# Altium schematic symbol library Analog Devices Amplifiers and Linear Comparators.SchLib: 160 symbols (part 1 of 9)
Pins are listed as number, name and electrical type; pins without a type are passive.

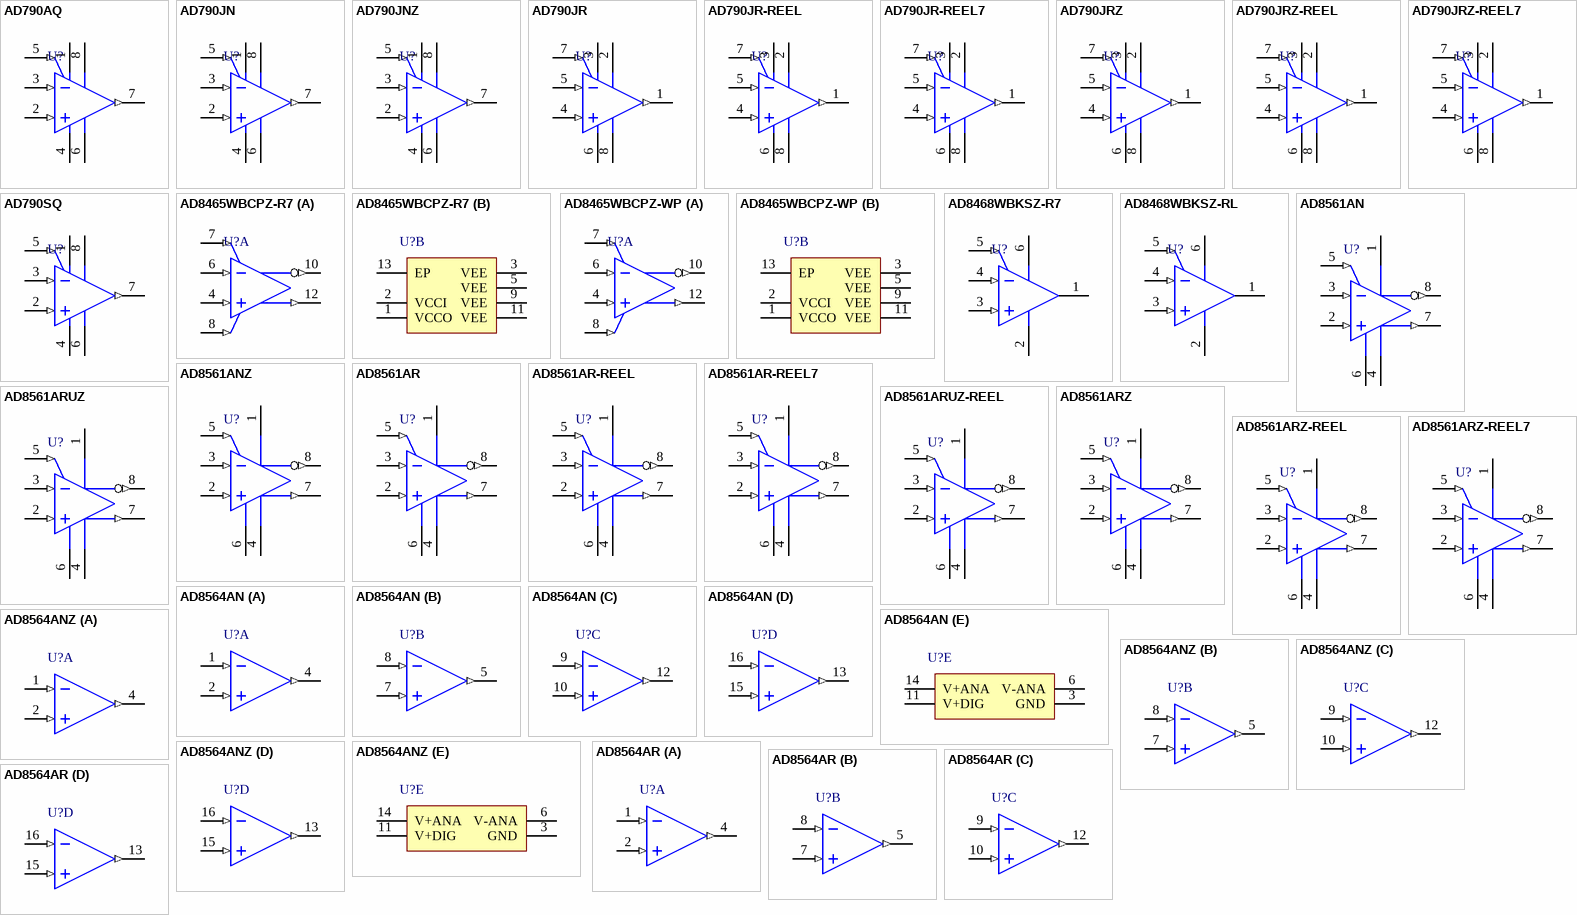
[diagram p0: symbols AD790AQ to AD8564AR]

## AD790AQ
designator U?
Fast, Precision Comparator, + / - 15 V, 45 ns Delay, Industrial, 8-pin DIP (Q-8), Tube; Manufacturer: Analog Devices; PartNumber: AD790AQ; Input Range (V): -VS to VS-2; Total Power (mW): 250mW; Voltage Supply (V): +/-15, 5; DatasheetVersion: Rev. D; PackageVersion: Aug-05; PackageReference: Q-8; PackageDescription: 8-Pin Ceramic Dual In-Line Package, Row spacing 7.62 mm, Pitch 2.54 mm; Supplier 1: Digi-Key; Supplier Part Number 1: AD790AQ-ND; Supplier 2: Mouser; Supplier Part Number 2: 584-AD790AQ; Packing: Tube; Mounting Technology: Through Hole; ComponentLink1Description: Manufacturer URL; ComponentLink1URL: http://www.analog.com/en/index.html; ComponentLink2Description: Datasheet; ComponentLink2URL: http://www.analog.com/static/imported-files/data_sheets/AD790.pdf; ComponentLink3Description: Package Specification; ComponentLink3URL: http://www.analog.com/static/imported-files/packages/3925655241313314758Q_8.pdf; ComponentLink4Description: URL Link1; ComponentLink4URL: Product URL:http://www.analog.com/en/special-linear-functions/comparators/ad790/products/product.html; ComponentLink5Description: URL Link2; ComponentLink5URL: Reference Circuit:http://www.analog.com/en/special-linear-functions/comparators/ad790/products/product.html#product-recommendations
footprint ADI-Q-8 (DIP, 8-Leads, Body 10.29x6.73mm, Pitch 2.54mm)
pins: 1 +VS (power), 2 +IN (in), 3 -IN (in), 4 -VS (power), 5 ~{LATCH} (in), 6 GROUND (power), 7 OUTPUT (out), 8 VLOGIC (power)

## AD790JN
designator U?
Fast, Precision Comparator, + / - 15 V, 45 ns Delay, Commercial, 8-pin DIP (N-8), Tube; Manufacturer: Analog Devices; PartNumber: AD790JN; Input Range (V): -VS to VS-2; Total Power (mW): 250mW; Voltage Supply (V): +/-15, 5; DatasheetVersion: Rev. D; PackageVersion: 070606-A, 07/2006; PackageReference: N-8; PackageDescription: 8-Pin Plastic Dual In-Line Package, Row spacing 7.62 mm, Pitch 2.54 mm; Supplier 1: Digi-Key; Supplier Part Number 1: AD790JN-ND; Supplier 2: Mouser; Supplier Part Number 2: 584-AD790JN; Packing: Tube; Mounting Technology: Through Hole; Code_JEDEC: MS-001; ComponentLink1Description: Manufacturer URL; ComponentLink1URL: http://www.analog.com/en/index.html; ComponentLink2Description: Datasheet; ComponentLink2URL: http://www.analog.com/static/imported-files/data_sheets/AD790.pdf; ComponentLink3Description: Package Specification; ComponentLink3URL: http:/www.analog.com/static/imported-files/packages/PKG_PDF/PDIP(N)/N_8.pdf; ComponentLink4Description: URL Link1; ComponentLink4URL: Product URL:http://www.analog.com/en/special-linear-functions/comparators/ad790/products/product.html; ComponentLink5Description: URL Link2; ComponentLink5URL: Reference Circuit:http://www.analog.com/en/special-linear-functions/comparators/ad790/products/product.html#product-recommendations
footprint ADI-N-8 (DIP, 8-Leads, Body 9.59x6.6mm, Pitch 2.54mm)
pins: 1 +VS (power), 2 +IN (in), 3 -IN (in), 4 -VS (power), 5 ~{LATCH} (in), 6 GROUND (power), 7 OUTPUT (out), 8 VLOGIC (power)

## AD790JNZ
designator U?
Fast, Precision Comparator, + / - 15 V, 45 ns Delay, Commercial, 8-pin DIP (N-8), Tube; Manufacturer: Analog Devices; PartNumber: AD790JNZ; Input Range (V): -VS to VS-2; Total Power (mW): 250mW; Voltage Supply (V): +/-15, 5; DatasheetVersion: Rev. D; PackageVersion: 070606-A, 07/2006; PackageReference: N-8; PackageDescription: 8-Pin Plastic Dual In-Line Package, Row spacing 7.62 mm, Pitch 2.54 mm; Supplier 1: Digi-Key; Supplier Part Number 1: AD790JNZ-ND; Supplier 2: Farnell; Supplier Part Number 2: 9605045; Supplier 3: Mouser; Supplier Part Number 3: 584-AD790JNZ; Packing: Tube; Mounting Technology: Through Hole; Code_JEDEC: MS-001; ComponentLink1Description: Manufacturer URL; ComponentLink1URL: http://www.analog.com/en/index.html; ComponentLink2Description: Datasheet; ComponentLink2URL: http://www.analog.com/static/imported-files/data_sheets/AD790.pdf; ComponentLink3Description: Package Specification; ComponentLink3URL: http:/www.analog.com/static/imported-files/packages/PKG_PDF/PDIP(N)/N_8.pdf; ComponentLink4Description: URL Link1; ComponentLink4URL: Product URL:http://www.analog.com/en/special-linear-functions/comparators/ad790/products/product.html; ComponentLink5Description: URL Link2; ComponentLink5URL: Reference Circuit:http://www.analog.com/en/special-linear-functions/comparators/ad790/products/product.html#product-recommendations
footprint ADI-N-8 (DIP, 8-Leads, Body 9.59x6.6mm, Pitch 2.54mm)
pins: 1 +VS (power), 2 +IN (in), 3 -IN (in), 4 -VS (power), 5 ~{LATCH} (in), 6 GROUND (power), 7 OUTPUT (out), 8 VLOGIC (power)

## AD790JR
designator U?
Fast, Precision Comparator, + / - 15 V, 45 ns Delay, Commercial, 8-pin SOIC (R-8), Tube; Manufacturer: Analog Devices; PartNumber: AD790JR; Input Range (V): -VS to VS-2; Total Power (mW): 250mW; Voltage Supply (V): +/-15, 5; DatasheetVersion: Rev. D; PackageVersion: 060506-A, 06/2006; PackageReference: R-8; PackageDescription: 8-Pin Standard Small Outline Package, Body 4.9 x 3.9 mm, Pitch 1.27 mm; Supplier 1: Digi-Key; Supplier Part Number 1: AD790JR-ND; Supplier 2: Mouser; Supplier Part Number 2: 584-AD790JR; Packing: Tube; Mounting Technology: Surface Mount; Code_JEDEC: MS-012-AA; ComponentLink1Description: Manufacturer URL; ComponentLink1URL: http://www.analog.com/en/index.html; ComponentLink2Description: Datasheet; ComponentLink2URL: http://www.analog.com/static/imported-files/data_sheets/AD790.pdf; ComponentLink3Description: Package Specification; ComponentLink3URL: http://www.analog.com/static/imported-files/packages/PKG_PDF/SOIC_Narrow%20(R)/R_8.pdf; ComponentLink4Description: URL Link1; ComponentLink4URL: Product URL:http://www.analog.com/en/special-linear-functions/comparators/ad790/products/product.html; ComponentLink5Description: URL Link2; ComponentLink5URL: Reference Circuit:http://www.analog.com/en/special-linear-functions/comparators/ad790/products/product.html#product-recommendations
footprint ADI-R-8_N (SOIC, 8-Leads, Body 4.9x3.9mm, Pitch 1.27mm, IPC Medium Density)
footprint ADI-R-8_L (SOIC, 8-Leads, Body 4.9x3.9mm, Pitch 1.27mm, IPC High Density)
footprint ADI-R-8_M (SOIC, 8-Leads, Body 4.9x3.9mm, Pitch 1.27mm, IPC Low Density)
pins: 1 OUTPUT (out), 2 VLOGIC (power), 3 +VS (power), 4 +IN (in), 5 -IN (in), 6 -VS (power), 7 ~{LATCH} (in), 8 GROUND (power)

## AD790JR-REEL
designator U?
Fast, Precision Comparator, + / - 15 V, 45 ns Delay, Commercial, 8-pin SOIC (R-8), Reel; Manufacturer: Analog Devices; PartNumber: AD790JR-REEL; Input Range (V): -VS to VS-2; Total Power (mW): 250mW; Voltage Supply (V): +/-15, 5; DatasheetVersion: Rev. D; PackageVersion: 060506-A, 06/2006; PackageReference: R-8; PackageDescription: 8-Pin Standard Small Outline Package, Body 4.9 x 3.9 mm, Pitch 1.27 mm; Supplier 1: Digi-Key; Supplier Part Number 1: AD790JR-REEL-ND; Supplier 2: Mouser; Supplier Part Number 2: 584-AD790JR-R; Packing: Reel; Mounting Technology: Surface Mount; Code_JEDEC: MS-012-AA; ComponentLink1Description: Manufacturer URL; ComponentLink1URL: http://www.analog.com/en/index.html; ComponentLink2Description: Datasheet; ComponentLink2URL: http://www.analog.com/static/imported-files/data_sheets/AD790.pdf; ComponentLink3Description: Package Specification; ComponentLink3URL: http://www.analog.com/static/imported-files/packages/PKG_PDF/SOIC_Narrow%20(R)/R_8.pdf; ComponentLink4Description: URL Link1; ComponentLink4URL: Product URL:http://www.analog.com/en/special-linear-functions/comparators/ad790/products/product.html; ComponentLink5Description: URL Link2; ComponentLink5URL: Reference Circuit:http://www.analog.com/en/special-linear-functions/comparators/ad790/products/product.html#product-recommendations
footprint ADI-R-8_N (SOIC, 8-Leads, Body 4.9x3.9mm, Pitch 1.27mm, IPC Medium Density)
footprint ADI-R-8_L (SOIC, 8-Leads, Body 4.9x3.9mm, Pitch 1.27mm, IPC High Density)
footprint ADI-R-8_M (SOIC, 8-Leads, Body 4.9x3.9mm, Pitch 1.27mm, IPC Low Density)
pins: 1 OUTPUT (out), 2 VLOGIC (power), 3 +VS (power), 4 +IN (in), 5 -IN (in), 6 -VS (power), 7 ~{LATCH} (in), 8 GROUND (power)

## AD790JR-REEL7
designator U?
Fast, Precision Comparator, + / - 15 V, 45 ns Delay, Commercial, 8-pin SOIC (R-8), Reel; Manufacturer: Analog Devices; PartNumber: AD790JR-REEL7; Input Range (V): -VS to VS-2; Total Power (mW): 250mW; Voltage Supply (V): +/-15, 5; DatasheetVersion: Rev. D; PackageVersion: 060506-A, 06/2006; PackageReference: R-8; PackageDescription: 8-Pin Standard Small Outline Package, Body 4.9 x 3.9 mm, Pitch 1.27 mm; Supplier 1: Digi-Key; Supplier Part Number 1: AD790JR-REEL7-ND; Supplier 2: Mouser; Supplier Part Number 2: 584-AD790JR-R7; Packing: Reel; Mounting Technology: Surface Mount; Code_JEDEC: MS-012-AA; ComponentLink1Description: Manufacturer URL; ComponentLink1URL: http://www.analog.com/en/index.html; ComponentLink2Description: Datasheet; ComponentLink2URL: http://www.analog.com/static/imported-files/data_sheets/AD790.pdf; ComponentLink3Description: Package Specification; ComponentLink3URL: http://www.analog.com/static/imported-files/packages/PKG_PDF/SOIC_Narrow%20(R)/R_8.pdf; ComponentLink4Description: URL Link1; ComponentLink4URL: Product URL:http://www.analog.com/en/special-linear-functions/comparators/ad790/products/product.html; ComponentLink5Description: URL Link2; ComponentLink5URL: Reference Circuit:http://www.analog.com/en/special-linear-functions/comparators/ad790/products/product.html#product-recommendations
footprint ADI-R-8_N (SOIC, 8-Leads, Body 4.9x3.9mm, Pitch 1.27mm, IPC Medium Density)
footprint ADI-R-8_L (SOIC, 8-Leads, Body 4.9x3.9mm, Pitch 1.27mm, IPC High Density)
footprint ADI-R-8_M (SOIC, 8-Leads, Body 4.9x3.9mm, Pitch 1.27mm, IPC Low Density)
pins: 1 OUTPUT (out), 2 VLOGIC (power), 3 +VS (power), 4 +IN (in), 5 -IN (in), 6 -VS (power), 7 ~{LATCH} (in), 8 GROUND (power)

## AD790JRZ
designator U?
Fast, Precision Comparator, + / - 15 V, 45 ns Delay, Commercial, 8-pin SOIC (R-8), Tube; Manufacturer: Analog Devices; PartNumber: AD790JRZ; Input Range (V): -VS to VS-2; Total Power (mW): 250mW; Voltage Supply (V): +/-15, 5; DatasheetVersion: Rev. D; PackageVersion: 060506-A, 06/2006; PackageReference: R-8; PackageDescription: 8-Pin Standard Small Outline Package, Body 4.9 x 3.9 mm, Pitch 1.27 mm; Supplier 1: Digi-Key; Supplier Part Number 1: AD790JRZ-ND; Supplier 2: Farnell; Supplier Part Number 2: 1651266; Supplier 3: Mouser; Supplier Part Number 3: 584-AD790JRZ; Packing: Tube; Mounting Technology: Surface Mount; Code_JEDEC: MS-012-AA; ComponentLink1Description: Manufacturer URL; ComponentLink1URL: http://www.analog.com/en/index.html; ComponentLink2Description: Datasheet; ComponentLink2URL: http://www.analog.com/static/imported-files/data_sheets/AD790.pdf; ComponentLink3Description: Package Specification; ComponentLink3URL: http://www.analog.com/static/imported-files/packages/PKG_PDF/SOIC_Narrow%20(R)/R_8.pdf; ComponentLink4Description: URL Link1; ComponentLink4URL: Product URL:http://www.analog.com/en/special-linear-functions/comparators/ad790/products/product.html; ComponentLink5Description: URL Link2; ComponentLink5URL: Reference Circuit:http://www.analog.com/en/special-linear-functions/comparators/ad790/products/product.html#product-recommendations
footprint ADI-R-8_N (SOIC, 8-Leads, Body 4.9x3.9mm, Pitch 1.27mm, IPC Medium Density)
footprint ADI-R-8_L (SOIC, 8-Leads, Body 4.9x3.9mm, Pitch 1.27mm, IPC High Density)
footprint ADI-R-8_M (SOIC, 8-Leads, Body 4.9x3.9mm, Pitch 1.27mm, IPC Low Density)
pins: 1 OUTPUT (out), 2 VLOGIC (power), 3 +VS (power), 4 +IN (in), 5 -IN (in), 6 -VS (power), 7 ~{LATCH} (in), 8 GROUND (power)

## AD790JRZ-REEL
designator U?
Fast, Precision Comparator, + / - 15 V, 45 ns Delay, Commercial, 8-pin SOIC (R-8), Reel; Manufacturer: Analog Devices; PartNumber: AD790JRZ-REEL; Input Range (V): -VS to VS-2; Total Power (mW): 250mW; Voltage Supply (V): +/-15, 5; DatasheetVersion: Rev. D; PackageVersion: 060506-A, 06/2006; PackageReference: R-8; PackageDescription: 8-Pin Standard Small Outline Package, Body 4.9 x 3.9 mm, Pitch 1.27 mm; Supplier 1: Digi-Key; Supplier Part Number 1: AD790JRZ-REEL-ND; Supplier 2: Mouser; Supplier Part Number 2: 584-AD790JRZ-R; Packing: Reel; Mounting Technology: Surface Mount; Code_JEDEC: MS-012-AA; ComponentLink1Description: Manufacturer URL; ComponentLink1URL: http://www.analog.com/en/index.html; ComponentLink2Description: Datasheet; ComponentLink2URL: http://www.analog.com/static/imported-files/data_sheets/AD790.pdf; ComponentLink3Description: Package Specification; ComponentLink3URL: http://www.analog.com/static/imported-files/packages/PKG_PDF/SOIC_Narrow%20(R)/R_8.pdf; ComponentLink4Description: URL Link1; ComponentLink4URL: Product URL:http://www.analog.com/en/special-linear-functions/comparators/ad790/products/product.html; ComponentLink5Description: URL Link2; ComponentLink5URL: Reference Circuit:http://www.analog.com/en/special-linear-functions/comparators/ad790/products/product.html#product-recommendations
footprint ADI-R-8_N (SOIC, 8-Leads, Body 4.9x3.9mm, Pitch 1.27mm, IPC Medium Density)
footprint ADI-R-8_L (SOIC, 8-Leads, Body 4.9x3.9mm, Pitch 1.27mm, IPC High Density)
footprint ADI-R-8_M (SOIC, 8-Leads, Body 4.9x3.9mm, Pitch 1.27mm, IPC Low Density)
pins: 1 OUTPUT (out), 2 VLOGIC (power), 3 +VS (power), 4 +IN (in), 5 -IN (in), 6 -VS (power), 7 ~{LATCH} (in), 8 GROUND (power)

## AD790JRZ-REEL7
designator U?
Fast, Precision Comparator, + / - 15 V, 45 ns Delay, Commercial, 8-pin SOIC (R-8), Reel; Manufacturer: Analog Devices; PartNumber: AD790JRZ-REEL7; Input Range (V): -VS to VS-2; Total Power (mW): 250mW; Voltage Supply (V): +/-15, 5; DatasheetVersion: Rev. D; PackageVersion: 060506-A, 06/2006; PackageReference: R-8; PackageDescription: 8-Pin Standard Small Outline Package, Body 4.9 x 3.9 mm, Pitch 1.27 mm; Supplier 1: Digi-Key; Supplier Part Number 1: AD790JRZ-REEL7TR-ND; Supplier 2: Digi-Key; Supplier Part Number 2: AD790JRZ-REEL7CT-ND; Supplier 3: Digi-Key; Supplier Part Number 3: AD790JRZ-REEL7DKR-ND; Supplier 4: Mouser; Supplier Part Number 4: 584-AD790JRZ-R7; Packing: Reel; Mounting Technology: Surface Mount; Code_JEDEC: MS-012-AA; ComponentLink1Description: Manufacturer URL; ComponentLink1URL: http://www.analog.com/en/index.html; ComponentLink2Description: Datasheet; ComponentLink2URL: http://www.analog.com/static/imported-files/data_sheets/AD790.pdf; ComponentLink3Description: Package Specification; ComponentLink3URL: http://www.analog.com/static/imported-files/packages/PKG_PDF/SOIC_Narrow%20(R)/R_8.pdf; ComponentLink4Description: URL Link1; ComponentLink4URL: Product URL:http://www.analog.com/en/special-linear-functions/comparators/ad790/products/product.html; ComponentLink5Description: URL Link2; ComponentLink5URL: Reference Circuit:http://www.analog.com/en/special-linear-functions/comparators/ad790/products/product.html#product-recommendations
footprint ADI-R-8_N (SOIC, 8-Leads, Body 4.9x3.9mm, Pitch 1.27mm, IPC Medium Density)
footprint ADI-R-8_L (SOIC, 8-Leads, Body 4.9x3.9mm, Pitch 1.27mm, IPC High Density)
footprint ADI-R-8_M (SOIC, 8-Leads, Body 4.9x3.9mm, Pitch 1.27mm, IPC Low Density)
pins: 1 OUTPUT (out), 2 VLOGIC (power), 3 +VS (power), 4 +IN (in), 5 -IN (in), 6 -VS (power), 7 ~{LATCH} (in), 8 GROUND (power)

## AD790SQ
designator U?
Fast, Precision Comparator, + / - 15 V, 45 ns Delay, Military, 8-pin DIP (Q-8), Tube; Manufacturer: Analog Devices; PartNumber: AD790SQ; Input Range (V): -VS to VS-2; Total Power (mW): 250mW; Voltage Supply (V): +/-15, 5; DatasheetVersion: Rev. D; PackageVersion: Aug-05; PackageReference: Q-8; PackageDescription: 8-Pin Ceramic Dual In-Line Package, Row spacing 7.62 mm, Pitch 2.54 mm; Supplier 1: Digi-Key; Supplier Part Number 1: AD790SQ-ND; Supplier 2: Mouser; Supplier Part Number 2: 584-AD790SQ; Packing: Tube; Mounting Technology: Through Hole; ComponentLink1Description: Manufacturer URL; ComponentLink1URL: http://www.analog.com/en/index.html; ComponentLink2Description: Datasheet; ComponentLink2URL: http://www.analog.com/static/imported-files/data_sheets/AD790.pdf; ComponentLink3Description: Package Specification; ComponentLink3URL: http://www.analog.com/static/imported-files/packages/3925655241313314758Q_8.pdf; ComponentLink4Description: URL Link1; ComponentLink4URL: Product URL:http://www.analog.com/en/special-linear-functions/comparators/ad790/products/product.html; ComponentLink5Description: URL Link2; ComponentLink5URL: Reference Circuit:http://www.analog.com/en/special-linear-functions/comparators/ad790/products/product.html#product-recommendations
footprint ADI-Q-8 (DIP, 8-Leads, Body 10.29x6.73mm, Pitch 2.54mm)
pins: 1 +VS (power), 2 +IN (in), 3 -IN (in), 4 -VS (power), 5 ~{LATCH} (in), 6 GROUND (power), 7 OUTPUT (out), 8 VLOGIC (power)

## AD8465WBCPZ-R7
designator U?
Rail-to-Rail, Very Fast, Single-Supply LVDS Comparator, 2.5 to 5.5 V, 1.6 ns Delay, Automotive, 12-pin QFN (CP-12-3), Reel; Manufacturer: Analog Devices; PartNumber: AD8465WBCPZ-R7; Input Range (V): -0.2 to VCCI+0.2; Total Power (mW): 42mW; DatasheetVersion: Rev. A; PackageVersion: 032707-A, 03/2007; PackageReference: CP-12-3; PackageDescription: 12-Pin Lead Frame Chip Scale Package, Body 3 x 3 mm, Pitch 0.5 mm; Supplier 1: Digi-Key; Supplier Part Number 1: AD8465WBCPZ-R7TR-ND; Supplier 2: Digi-Key; Supplier Part Number 2: AD8465WBCPZ-R7CT-ND; Supplier 3: Digi-Key; Supplier Part Number 3: AD8465WBCPZ-R7DKR-ND; Supplier 4: Mouser; Supplier Part Number 4: 584-AD8465WBCPZ-R7; Packing: Reel; Voltage Supply (V): 2.5 to 5.5; Mounting Technology: Surface Mount; Code_JEDEC: MO-220-VEED-1; ComponentLink1Description: Manufacturer URL; ComponentLink1URL: http://www.analog.com/en/index.html; ComponentLink2Description: Datasheet; ComponentLink2URL: http://www.analog.com/static/imported-files/data_sheets/AD8465.pdf; ComponentLink3Description: Package Specification; ComponentLink3URL: http:/www.analog.com/static/imported-files/packages/PKG_PDF/LFCSP(CP)/CP_12_3.pdf; ComponentLink4Description: URL Link1; ComponentLink4URL: Product URL:http://www.analog.com/en/special-linear-functions/comparators/ad8465/products/product.html
footprint ADI-CP-12-3_N (QFN, 12-Leads, Body 3x3mm, Pitch 0.5mm, Thermal Pad 1.5x1.5mm, IPC Medium Density)
footprint ADI-CP-12-3_L (QFN, 12-Leads, Body 3x3mm, Pitch 0.5mm, Thermal Pad 1.5x1.5mm, IPC High Density)
footprint ADI-CP-12-3_M (QFN, 12-Leads, Body 3x3mm, Pitch 0.5mm, Thermal Pad 1.5x1.5mm, IPC Low Density)
part A pins: 4 VP (in) "Noninverting Analog Input.", 6 VN (in) "Inverting Analog Input.", 7 SDN (in) "Shutdown. Drive this pin low to shut down the device.", 8 LE/HYS (in) "Latch/Hysteresis Control. Bias with resistor or current for hysteresis; drive low to latch.", 10 ~{Q} (out) "Inverting Output. Q\ is at Logic low if the analog voltage at the noninverting input, VP, is greater than the analog voltage at the inverting input, VN, if the comparator is in compare mode.", 12 Q (out) "Noninverting Output. Q is at Logic high if the analog voltage at the noninverting input, VP, is greater than the analog voltage at the inverting input, VN, if the comparator is in compare mode."
part B pins: 1 VCCO (power) "Output Section Supply.", 2 VCCI (power) "Input Section Supply.", 3 VEE (power) "Negative Supply Voltages.", 5 VEE (power) "Negative Supply Voltages.", 9 VEE (power) "Negative Supply Voltages.", 11 VEE (power) "Negative Supply Voltages.", 13 EP "The metallic back surface of the package is electrically connected to VEE. It can be left floating because Pin 3, Pin 5, Pin 9, and Pin 11 provide adequate electrical connection. It can also be soldered to the application (See Datasheet)"

## AD8465WBCPZ-WP
designator U?
Rail-to-Rail, Very Fast, Single-Supply LVDS Comparator, 2.5 to 5.5 V, 1.6 ns Delay, Automotive, 12-pin QFN (CP-12-3), Tray; Manufacturer: Analog Devices; PartNumber: AD8465WBCPZ-WP; Input Range (V): -0.2 to VCCI+0.2; Total Power (mW): 42mW; DatasheetVersion: Rev. A; PackageVersion: 032707-A, 03/2007; PackageReference: CP-12-3; PackageDescription: 12-Pin Lead Frame Chip Scale Package, Body 3 x 3 mm, Pitch 0.5 mm; Supplier 1: Digi-Key; Supplier Part Number 1: AD8465WBCPZ-WP-ND; Supplier 2: Farnell; Supplier Part Number 2: 1827369; Supplier 3: Mouser; Supplier Part Number 3: 584-AD8465WBCPZ-WP; Packing: Tray; Voltage Supply (V): 2.5 to 5.5; Mounting Technology: Surface Mount; Code_JEDEC: MO-220-VEED-1; ComponentLink1Description: Manufacturer URL; ComponentLink1URL: http://www.analog.com/en/index.html; ComponentLink2Description: Datasheet; ComponentLink2URL: http://www.analog.com/static/imported-files/data_sheets/AD8465.pdf; ComponentLink3Description: Package Specification; ComponentLink3URL: http:/www.analog.com/static/imported-files/packages/PKG_PDF/LFCSP(CP)/CP_12_3.pdf; ComponentLink4Description: URL Link1; ComponentLink4URL: Product URL:http://www.analog.com/en/special-linear-functions/comparators/ad8465/products/product.html
footprint ADI-CP-12-3_N (QFN, 12-Leads, Body 3x3mm, Pitch 0.5mm, Thermal Pad 1.5x1.5mm, IPC Medium Density)
footprint ADI-CP-12-3_L (QFN, 12-Leads, Body 3x3mm, Pitch 0.5mm, Thermal Pad 1.5x1.5mm, IPC High Density)
footprint ADI-CP-12-3_M (QFN, 12-Leads, Body 3x3mm, Pitch 0.5mm, Thermal Pad 1.5x1.5mm, IPC Low Density)
part A pins: 4 VP (in) "Noninverting Analog Input.", 6 VN (in) "Inverting Analog Input.", 7 SDN (in) "Shutdown. Drive this pin low to shut down the device.", 8 LE/HYS (in) "Latch/Hysteresis Control. Bias with resistor or current for hysteresis; drive low to latch.", 10 ~{Q} (out) "Inverting Output. Q\ is at Logic low if the analog voltage at the noninverting input, VP, is greater than the analog voltage at the inverting input, VN, if the comparator is in compare mode.", 12 Q (out) "Noninverting Output. Q is at Logic high if the analog voltage at the noninverting input, VP, is greater than the analog voltage at the inverting input, VN, if the comparator is in compare mode."
part B pins: 1 VCCO (power) "Output Section Supply.", 2 VCCI (power) "Input Section Supply.", 3 VEE (power) "Negative Supply Voltages.", 5 VEE (power) "Negative Supply Voltages.", 9 VEE (power) "Negative Supply Voltages.", 11 VEE (power) "Negative Supply Voltages.", 13 EP "The metallic back surface of the package is electrically connected to VEE. It can be left floating because Pin 3, Pin 5, Pin 9, and Pin 11 provide adequate electrical connection. It can also be soldered to the application (See Datasheet)"

## AD8468WBKSZ-R7
designator U?
Rail-to-Rail, Fast, Low Power, Single-Supply TTL / CMOS Comparator, 2.5 to 5.5 V, 40 ns Delay, Automotive, 6-pin SOT23 (KS-6), Reel; Manufacturer: Analog Devices; PartNumber: AD8468WBKSZ-R7; Input Range (V): -0.2 to VCC+0.2; Total Power (mW): 2mW; DatasheetVersion: Rev. 0; PackageVersion: 072809-A, 07/2009; PackageReference: KS-6; PackageDescription: 6-Pin Thin Shrink Small Outline Transistor Package, Body 2 x 1.25 mm, Pitch 0.65 mm; Supplier 1: Digi-Key; Supplier Part Number 1: AD8468WBKSZ-R7TR-ND; Supplier 2: Digi-Key; Supplier Part Number 2: AD8468WBKSZ-R7CT-ND; Supplier 3: Digi-Key; Supplier Part Number 3: AD8468WBKSZ-R7DKR-ND; Supplier 4: Farnell; Supplier Part Number 4: 2376806; Supplier 5: Farnell; Supplier Part Number 5: 1872638; Supplier 6: Mouser; Supplier Part Number 6: 584-AD8468WBKSZ-R7; Packing: Reel; Voltage Supply (V): 2.5 to 5.5; Mounting Technology: Surface Mount; Code_JEDEC: MO-203-AB; ComponentLink1Description: Manufacturer URL; ComponentLink1URL: http://www.analog.com/en/index.html; ComponentLink2Description: Datasheet; ComponentLink2URL: http://www.analog.com/static/imported-files/data_sheets/AD8468.pdf; ComponentLink3Description: Package Specification; ComponentLink3URL: http://www.analog.com/static/imported-files/packages/PKG_PDF/SC70(KS)/KS_6.pdf; ComponentLink4Description: URL Link1; ComponentLink4URL: Product URL:http://www.analog.com/en/special-linear-functions/comparators/ad8468/products/product.html
footprint ADI-KS-6_N (SOT23, 6-Leads, Body 2x1.25mm, Pitch 0.65mm, IPC Medium Density)
footprint ADI-KS-6_L (SOT23, 6-Leads, Body 2x1.25mm, Pitch 0.65mm, IPC High Density)
footprint ADI-KS-6_M (SOT23, 6-Leads, Body 2x1.25mm, Pitch 0.65mm, IPC Low Density)
pins: 1 Q (hiz) "Noninverting Output. Q is at logic high if the analog voltage at the noninverting input, VP, is greater than the analog voltage at the inverting input, VN.", 2 GND (power) "Ground.", 3 VP (in) "Noninverting Analog Input.", 4 VN (in) "Inverting Analog Input.", 5 SDN (in) "Shutdown. Drive this pin low to shut down the device.", 6 VCC (power) "VCC Supply."

## AD8468WBKSZ-RL
designator U?
Rail-to-Rail, Fast, Low Power, Single-Supply TTL / CMOS Comparator, 2.5 to 5.5 V, 40 ns Delay, Automotive, 6-pin SOT23 (KS-6), Reel; Manufacturer: Analog Devices; PartNumber: AD8468WBKSZ-RL; Input Range (V): -0.2 to VCC+0.2; Total Power (mW): 2mW; DatasheetVersion: Rev. 0; PackageVersion: 072809-A, 07/2009; PackageReference: KS-6; PackageDescription: 6-Pin Thin Shrink Small Outline Transistor Package, Body 2 x 1.25 mm, Pitch 0.65 mm; Supplier 1: Mouser; Supplier Part Number 1: 584-AD8468WBKSZ-R; Packing: Reel; Voltage Supply (V): 2.5 to 5.5; Mounting Technology: Surface Mount; Code_JEDEC: MO-203-AB; ComponentLink1Description: Manufacturer URL; ComponentLink1URL: http://www.analog.com/en/index.html; ComponentLink2Description: Datasheet; ComponentLink2URL: http://www.analog.com/static/imported-files/data_sheets/AD8468.pdf; ComponentLink3Description: Package Specification; ComponentLink3URL: http://www.analog.com/static/imported-files/packages/PKG_PDF/SC70(KS)/KS_6.pdf; ComponentLink4Description: URL Link1; ComponentLink4URL: Product URL:http://www.analog.com/en/special-linear-functions/comparators/ad8468/products/product.html
footprint ADI-KS-6_N (SOT23, 6-Leads, Body 2x1.25mm, Pitch 0.65mm, IPC Medium Density)
footprint ADI-KS-6_L (SOT23, 6-Leads, Body 2x1.25mm, Pitch 0.65mm, IPC High Density)
footprint ADI-KS-6_M (SOT23, 6-Leads, Body 2x1.25mm, Pitch 0.65mm, IPC Low Density)
pins: 1 Q (hiz) "Noninverting Output. Q is at logic high if the analog voltage at the noninverting input, VP, is greater than the analog voltage at the inverting input, VN.", 2 GND (power) "Ground.", 3 VP (in) "Noninverting Analog Input.", 4 VN (in) "Inverting Analog Input.", 5 SDN (in) "Shutdown. Drive this pin low to shut down the device.", 6 VCC (power) "VCC Supply."

## AD8561AN
designator U?
Ultrafast Single Supply Comparator, 5 V, 7 ns Delay, Industrial, 8-pin DIP (N-8), Tube; Manufacturer: Analog Devices; PartNumber: AD8561AN; Input Range (V): -5 to 3; Total Power (mW): 65mW; Voltage Supply (V): +/- 5; DatasheetVersion: Rev. 0; PackageVersion: 070606-A, 07/2006; PackageReference: N-8; PackageDescription: 8-Pin Plastic Dual In-Line Package, Row spacing 7.62 mm, Pitch 2.54 mm; Supplier 1: Digi-Key; Supplier Part Number 1: AD8561AN-ND; Supplier 2: Mouser; Supplier Part Number 2: N/A; Packing: Tube; Mounting Technology: Through Hole; Code_JEDEC: MS-001; ComponentLink1Description: Manufacturer URL; ComponentLink1URL: http://www.analog.com/en/index.html; ComponentLink2Description: Datasheet; ComponentLink2URL: http://www.analog.com/static/imported-files/data_sheets/AD8561.pdf; ComponentLink3Description: Package Specification; ComponentLink3URL: http:/www.analog.com/static/imported-files/packages/PKG_PDF/PDIP(N)/N_8.pdf; ComponentLink4Description: URL Link1; ComponentLink4URL: Product URL:http://www.analog.com/en/special-linear-functions/comparators/ad8561/products/product.html
footprint ADI-N-8 (DIP, 8-Leads, Body 9.59x6.6mm, Pitch 2.54mm)
pins: 1 V+ (power), 2 +IN (in), 3 -IN (in), 4 V- (power), 5 LATCH (in), 6 GND (power), 7 OUT (out), 8 ~{OUT} (out)

## AD8561ANZ
designator U?
Ultrafast Single Supply Comparator, 5 V, 7 ns Delay, Industrial, 8-pin DIP (N-8), Tube; Manufacturer: Analog Devices; PartNumber: AD8561ANZ; Input Range (V): -5 to 3; Total Power (mW): 65mW; Voltage Supply (V): +/- 5; DatasheetVersion: Rev. 0; PackageVersion: 070606-A, 07/2006; PackageReference: N-8; PackageDescription: 8-Pin Plastic Dual In-Line Package, Row spacing 7.62 mm, Pitch 2.54 mm; Supplier 1: Digi-Key; Supplier Part Number 1: AD8561ANZ-ND; Supplier 2: Farnell; Supplier Part Number 2: 9603867; Supplier 3: Mouser; Supplier Part Number 3: 584-AD8561ANZ; Packing: Tube; Mounting Technology: Through Hole; Code_JEDEC: MS-001; ComponentLink1Description: Manufacturer URL; ComponentLink1URL: http://www.analog.com/en/index.html; ComponentLink2Description: Datasheet; ComponentLink2URL: http://www.analog.com/static/imported-files/data_sheets/AD8561.pdf; ComponentLink3Description: Package Specification; ComponentLink3URL: http:/www.analog.com/static/imported-files/packages/PKG_PDF/PDIP(N)/N_8.pdf; ComponentLink4Description: URL Link1; ComponentLink4URL: Product URL:http://www.analog.com/en/special-linear-functions/comparators/ad8561/products/product.html
footprint ADI-N-8 (DIP, 8-Leads, Body 9.59x6.6mm, Pitch 2.54mm)
pins: 1 V+ (power), 2 +IN (in), 3 -IN (in), 4 V- (power), 5 LATCH (in), 6 GND (power), 7 OUT (out), 8 ~{OUT} (out)

## AD8561AR
designator U?
Ultrafast Single Supply Comparator, 5 V, 7 ns Delay, Industrial, 8-pin SOIC (R-8), Tube; Manufacturer: Analog Devices; PartNumber: AD8561AR; Input Range (V): -5 to 3; Total Power (mW): 65mW; Voltage Supply (V): +/- 5; DatasheetVersion: Rev. 0; PackageVersion: 060506-A, 06/2006; PackageReference: R-8; PackageDescription: 8-Pin Standard Small Outline Package, Body 4.9 x 3.9 mm, Pitch 1.27 mm; Supplier 1: Digi-Key; Supplier Part Number 1: AD8561AR-ND; Supplier 2: Mouser; Supplier Part Number 2: 584-AD8561AR; Packing: Tube; Mounting Technology: Surface Mount; Code_JEDEC: MS-012-AA; ComponentLink1Description: Manufacturer URL; ComponentLink1URL: http://www.analog.com/en/index.html; ComponentLink2Description: Datasheet; ComponentLink2URL: http://www.analog.com/static/imported-files/data_sheets/AD8561.pdf; ComponentLink3Description: Package Specification; ComponentLink3URL: http://www.analog.com/static/imported-files/packages/PKG_PDF/SOIC_Narrow%20(R)/R_8.pdf; ComponentLink4Description: URL Link1; ComponentLink4URL: Product URL:http://www.analog.com/en/special-linear-functions/comparators/ad8561/products/product.html
footprint ADI-R-8_N (SOIC, 8-Leads, Body 4.9x3.9mm, Pitch 1.27mm, IPC Medium Density)
footprint ADI-R-8_L (SOIC, 8-Leads, Body 4.9x3.9mm, Pitch 1.27mm, IPC High Density)
footprint ADI-R-8_M (SOIC, 8-Leads, Body 4.9x3.9mm, Pitch 1.27mm, IPC Low Density)
pins: 1 V+ (power), 2 +IN (in), 3 -IN (in), 4 V- (power), 5 LATCH (in), 6 GND (power), 7 OUT (out), 8 ~{OUT} (out)

## AD8561AR-REEL
designator U?
Ultrafast Single Supply Comparator, 5 V, 7 ns Delay, Industrial, 8-pin SOIC (R-8), Reel; Manufacturer: Analog Devices; PartNumber: AD8561AR-REEL; Input Range (V): -5 to 3; Total Power (mW): 65mW; Voltage Supply (V): +/- 5; DatasheetVersion: Rev. 0; PackageVersion: 060506-A, 06/2006; PackageReference: R-8; PackageDescription: 8-Pin Standard Small Outline Package, Body 4.9 x 3.9 mm, Pitch 1.27 mm; Supplier 1: Digi-Key; Supplier Part Number 1: AD8561AR-REEL-ND; Supplier 2: Mouser; Supplier Part Number 2: 584-AD8561AR-R; Packing: Reel; Mounting Technology: Surface Mount; Code_JEDEC: MS-012-AA; ComponentLink1Description: Manufacturer URL; ComponentLink1URL: http://www.analog.com/en/index.html; ComponentLink2Description: Datasheet; ComponentLink2URL: http://www.analog.com/static/imported-files/data_sheets/AD8561.pdf; ComponentLink3Description: Package Specification; ComponentLink3URL: http://www.analog.com/static/imported-files/packages/PKG_PDF/SOIC_Narrow%20(R)/R_8.pdf; ComponentLink4Description: URL Link1; ComponentLink4URL: Product URL:http://www.analog.com/en/special-linear-functions/comparators/ad8561/products/product.html
footprint ADI-R-8_N (SOIC, 8-Leads, Body 4.9x3.9mm, Pitch 1.27mm, IPC Medium Density)
footprint ADI-R-8_L (SOIC, 8-Leads, Body 4.9x3.9mm, Pitch 1.27mm, IPC High Density)
footprint ADI-R-8_M (SOIC, 8-Leads, Body 4.9x3.9mm, Pitch 1.27mm, IPC Low Density)
pins: 1 V+ (power), 2 +IN (in), 3 -IN (in), 4 V- (power), 5 LATCH (in), 6 GND (power), 7 OUT (out), 8 ~{OUT} (out)

## AD8561AR-REEL7
designator U?
Ultrafast Single Supply Comparator, 5 V, 7 ns Delay, Industrial, 8-pin SOIC (R-8), Reel; Manufacturer: Analog Devices; PartNumber: AD8561AR-REEL7; Input Range (V): -5 to 3; Total Power (mW): 65mW; Voltage Supply (V): +/- 5; DatasheetVersion: Rev. 0; PackageVersion: 060506-A, 06/2006; PackageReference: R-8; PackageDescription: 8-Pin Standard Small Outline Package, Body 4.9 x 3.9 mm, Pitch 1.27 mm; Supplier 1: Digi-Key; Supplier Part Number 1: AD8561AR-REEL7TR-ND; Supplier 2: Digi-Key; Supplier Part Number 2: AD8561AR-REEL7CT-ND; Supplier 3: Digi-Key; Supplier Part Number 3: AD8561AR-REEL7DKR-ND; Supplier 4: Mouser; Supplier Part Number 4: 584-AD8561AR-R7; Packing: Reel; Mounting Technology: Surface Mount; Code_JEDEC: MS-012-AA; ComponentLink1Description: Manufacturer URL; ComponentLink1URL: http://www.analog.com/en/index.html; ComponentLink2Description: Datasheet; ComponentLink2URL: http://www.analog.com/static/imported-files/data_sheets/AD8561.pdf; ComponentLink3Description: Package Specification; ComponentLink3URL: http://www.analog.com/static/imported-files/packages/PKG_PDF/SOIC_Narrow%20(R)/R_8.pdf; ComponentLink4Description: URL Link1; ComponentLink4URL: Product URL:http://www.analog.com/en/special-linear-functions/comparators/ad8561/products/product.html
footprint ADI-R-8_N (SOIC, 8-Leads, Body 4.9x3.9mm, Pitch 1.27mm, IPC Medium Density)
footprint ADI-R-8_L (SOIC, 8-Leads, Body 4.9x3.9mm, Pitch 1.27mm, IPC High Density)
footprint ADI-R-8_M (SOIC, 8-Leads, Body 4.9x3.9mm, Pitch 1.27mm, IPC Low Density)
pins: 1 V+ (power), 2 +IN (in), 3 -IN (in), 4 V- (power), 5 LATCH (in), 6 GND (power), 7 OUT (out), 8 ~{OUT} (out)

## AD8561ARUZ
designator U?
Ultrafast Single Supply Comparator, 5 V, 7 ns Delay, Industrial, 8-pin SOP (RU-8), Tube; Manufacturer: Analog Devices; PartNumber: AD8561ARUZ; Input Range (V): -5 to 3; Total Power (mW): 65mW; Voltage Supply (V): +/- 5; DatasheetVersion: Rev. 0; PackageVersion: Jan-03; PackageReference: RU-8; PackageDescription: 8-Pin Thin Shrink Small Outline Package, Body 3 x 4.4 mm, Pitch 0.65 mm; Supplier 1: Digi-Key; Supplier Part Number 1: AD8561ARUZ-ND; Supplier 2: Farnell; Supplier Part Number 2: 2305660; Supplier 3: Mouser; Supplier Part Number 3: 584-AD8561ARUZ; Packing: Tube; Mounting Technology: Surface Mount; Code_JEDEC: MO-153AA; ComponentLink1Description: Manufacturer URL; ComponentLink1URL: http://www.analog.com/en/index.html; ComponentLink2Description: Datasheet; ComponentLink2URL: http://www.analog.com/static/imported-files/data_sheets/AD8561.pdf; ComponentLink3Description: Package Specification; ComponentLink3URL: http://www.analog.com/static/imported-files/packages/359224089841708504863856053953356548880RU08.pdf; ComponentLink4Description: URL Link1; ComponentLink4URL: Product URL:http://www.analog.com/en/special-linear-functions/comparators/ad8561/products/product.html
footprint ADI-RU-8_N (SOP, 8-Leads, Body 4.4x3mm, Pitch 0.65mm, IPC Medium Density)
footprint ADI-RU-8_L (SOP, 8-Leads, Body 4.4x3mm, Pitch 0.65mm, IPC High Density)
footprint ADI-RU-8_M (SOP, 8-Leads, Body 4.4x3mm, Pitch 0.65mm, IPC Low Density)
pins: 1 V+ (power), 2 +IN (in), 3 -IN (in), 4 V- (power), 5 LATCH (in), 6 GND (power), 7 OUT (out), 8 ~{OUT} (out)

## AD8561ARUZ-REEL
designator U?
Ultrafast Single Supply Comparator, 5 V, 7 ns Delay, Industrial, 8-pin SOP (RU-8), Reel; Manufacturer: Analog Devices; PartNumber: AD8561ARUZ-REEL; Input Range (V): -5 to 3; Total Power (mW): 65mW; Voltage Supply (V): +/- 5; DatasheetVersion: Rev. 0; PackageVersion: Jan-03; PackageReference: RU-8; PackageDescription: 8-Pin Thin Shrink Small Outline Package, Body 3 x 4.4 mm, Pitch 0.65 mm; Supplier 1: Digi-Key; Supplier Part Number 1: AD8561ARUZ-REEL-ND; Supplier 2: Mouser; Supplier Part Number 2: 584-AD8561ARUZ-R; Packing: Reel; Mounting Technology: Surface Mount; Code_JEDEC: MO-153AA; ComponentLink1Description: Manufacturer URL; ComponentLink1URL: http://www.analog.com/en/index.html; ComponentLink2Description: Datasheet; ComponentLink2URL: http://www.analog.com/static/imported-files/data_sheets/AD8561.pdf; ComponentLink3Description: Package Specification; ComponentLink3URL: http://www.analog.com/static/imported-files/packages/359224089841708504863856053953356548880RU08.pdf; ComponentLink4Description: URL Link1; ComponentLink4URL: Product URL:http://www.analog.com/en/special-linear-functions/comparators/ad8561/products/product.html
footprint ADI-RU-8_N (SOP, 8-Leads, Body 4.4x3mm, Pitch 0.65mm, IPC Medium Density)
footprint ADI-RU-8_L (SOP, 8-Leads, Body 4.4x3mm, Pitch 0.65mm, IPC High Density)
footprint ADI-RU-8_M (SOP, 8-Leads, Body 4.4x3mm, Pitch 0.65mm, IPC Low Density)
pins: 1 V+ (power), 2 +IN (in), 3 -IN (in), 4 V- (power), 5 LATCH (in), 6 GND (power), 7 OUT (out), 8 ~{OUT} (out)

## AD8561ARZ
designator U?
Ultrafast Single Supply Comparator, 5 V, 7 ns Delay, Industrial, 8-pin SOIC (R-8), Tube; Manufacturer: Analog Devices; PartNumber: AD8561ARZ; Input Range (V): -5 to 3; Total Power (mW): 65mW; Voltage Supply (V): +/- 5; DatasheetVersion: Rev. 0; PackageVersion: 060506-A, 06/2006; PackageReference: R-8; PackageDescription: 8-Pin Standard Small Outline Package, Body 4.9 x 3.9 mm, Pitch 1.27 mm; Supplier 1: Digi-Key; Supplier Part Number 1: AD8561ARZ-ND; Supplier 2: Farnell; Supplier Part Number 2: 1661043; Supplier 3: Mouser; Supplier Part Number 3: 584-AD8561ARZ; Packing: Tube; Mounting Technology: Surface Mount; Code_JEDEC: MS-012-AA; ComponentLink1Description: Manufacturer URL; ComponentLink1URL: http://www.analog.com/en/index.html; ComponentLink2Description: Datasheet; ComponentLink2URL: http://www.analog.com/static/imported-files/data_sheets/AD8561.pdf; ComponentLink3Description: Package Specification; ComponentLink3URL: http://www.analog.com/static/imported-files/packages/PKG_PDF/SOIC_Narrow%20(R)/R_8.pdf; ComponentLink4Description: URL Link1; ComponentLink4URL: Product URL:http://www.analog.com/en/special-linear-functions/comparators/ad8561/products/product.html
footprint ADI-R-8_N (SOIC, 8-Leads, Body 4.9x3.9mm, Pitch 1.27mm, IPC Medium Density)
footprint ADI-R-8_L (SOIC, 8-Leads, Body 4.9x3.9mm, Pitch 1.27mm, IPC High Density)
footprint ADI-R-8_M (SOIC, 8-Leads, Body 4.9x3.9mm, Pitch 1.27mm, IPC Low Density)
pins: 1 V+ (power), 2 +IN (in), 3 -IN (in), 4 V- (power), 5 LATCH (in), 6 GND (power), 7 OUT (out), 8 ~{OUT} (out)

## AD8561ARZ-REEL
designator U?
Ultrafast Single Supply Comparator, 5 V, 7 ns Delay, Industrial, 8-pin SOIC (R-8), Reel; Manufacturer: Analog Devices; PartNumber: AD8561ARZ-REEL; Input Range (V): -5 to 3; Total Power (mW): 65mW; Voltage Supply (V): +/- 5; DatasheetVersion: Rev. 0; PackageVersion: 060506-A, 06/2006; PackageReference: R-8; PackageDescription: 8-Pin Standard Small Outline Package, Body 4.9 x 3.9 mm, Pitch 1.27 mm; Supplier 1: Digi-Key; Supplier Part Number 1: AD8561ARZ-REEL-ND; Supplier 2: Mouser; Supplier Part Number 2: 584-AD8561ARZ-R; Packing: Reel; Mounting Technology: Surface Mount; Code_JEDEC: MS-012-AA; ComponentLink1Description: Manufacturer URL; ComponentLink1URL: http://www.analog.com/en/index.html; ComponentLink2Description: Datasheet; ComponentLink2URL: http://www.analog.com/static/imported-files/data_sheets/AD8561.pdf; ComponentLink3Description: Package Specification; ComponentLink3URL: http://www.analog.com/static/imported-files/packages/PKG_PDF/SOIC_Narrow%20(R)/R_8.pdf; ComponentLink4Description: URL Link1; ComponentLink4URL: Product URL:http://www.analog.com/en/special-linear-functions/comparators/ad8561/products/product.html
footprint ADI-R-8_N (SOIC, 8-Leads, Body 4.9x3.9mm, Pitch 1.27mm, IPC Medium Density)
footprint ADI-R-8_L (SOIC, 8-Leads, Body 4.9x3.9mm, Pitch 1.27mm, IPC High Density)
footprint ADI-R-8_M (SOIC, 8-Leads, Body 4.9x3.9mm, Pitch 1.27mm, IPC Low Density)
pins: 1 V+ (power), 2 +IN (in), 3 -IN (in), 4 V- (power), 5 LATCH (in), 6 GND (power), 7 OUT (out), 8 ~{OUT} (out)

## AD8561ARZ-REEL7
designator U?
Ultrafast Single Supply Comparator, 5 V, 7 ns Delay, Industrial, 8-pin SOIC (R-8), Reel; Manufacturer: Analog Devices; PartNumber: AD8561ARZ-REEL7; Input Range (V): -5 to 3; Total Power (mW): 65mW; Voltage Supply (V): +/- 5; DatasheetVersion: Rev. 0; PackageVersion: 060506-A, 06/2006; PackageReference: R-8; PackageDescription: 8-Pin Standard Small Outline Package, Body 4.9 x 3.9 mm, Pitch 1.27 mm; Supplier 1: Digi-Key; Supplier Part Number 1: AD8561ARZ-REEL7TR-ND; Supplier 2: Digi-Key; Supplier Part Number 2: AD8561ARZ-REEL7CT-ND; Supplier 3: Digi-Key; Supplier Part Number 3: AD8561ARZ-REEL7DKR-ND; Supplier 4: Farnell; Supplier Part Number 4: 1424161; Supplier 5: Mouser; Supplier Part Number 5: 584-AD8561ARZ-R7; Packing: Reel; Mounting Technology: Surface Mount; Code_JEDEC: MS-012-AA; ComponentLink1Description: Manufacturer URL; ComponentLink1URL: http://www.analog.com/en/index.html; ComponentLink2Description: Datasheet; ComponentLink2URL: http://www.analog.com/static/imported-files/data_sheets/AD8561.pdf; ComponentLink3Description: Package Specification; ComponentLink3URL: http://www.analog.com/static/imported-files/packages/PKG_PDF/SOIC_Narrow%20(R)/R_8.pdf; ComponentLink4Description: URL Link1; ComponentLink4URL: Product URL:http://www.analog.com/en/special-linear-functions/comparators/ad8561/products/product.html
footprint ADI-R-8_N (SOIC, 8-Leads, Body 4.9x3.9mm, Pitch 1.27mm, IPC Medium Density)
footprint ADI-R-8_L (SOIC, 8-Leads, Body 4.9x3.9mm, Pitch 1.27mm, IPC High Density)
footprint ADI-R-8_M (SOIC, 8-Leads, Body 4.9x3.9mm, Pitch 1.27mm, IPC Low Density)
pins: 1 V+ (power), 2 +IN (in), 3 -IN (in), 4 V- (power), 5 LATCH (in), 6 GND (power), 7 OUT (out), 8 ~{OUT} (out)

## AD8564AN
designator U?
Quad Single Supply Comparator, 5 V, 7 ns Delay, Industrial, 16-pin DIP (N-16), Tube; Manufacturer: Analog Devices; PartNumber: AD8564AN; Input Range (V): -4.9 to 3.5; Total Power (mW): 150mW; Voltage Supply (V): +/- 5; DatasheetVersion: Rev. B; PackageVersion: 070706-A, 07/2006; PackageReference: N-16; PackageDescription: 16-Pin Plastic Dual In-Line Package, Row spacing 7.62 mm, Pitch 2.54 mm; Supplier 1: Digi-Key; Supplier Part Number 1: AD8564AN-ND; Supplier 2: Mouser; Supplier Part Number 2: N/A; Packing: Tube; Mounting Technology: Through Hole; Code_JEDEC: MS-001; ComponentLink1Description: Manufacturer URL; ComponentLink1URL: http://www.analog.com/en/index.html; ComponentLink2Description: Datasheet; ComponentLink2URL: http://www.analog.com/static/imported-files/data_sheets/AD8564.pdf; ComponentLink3Description: Package Specification; ComponentLink3URL: http://www.analog.com/static/imported-files/packages/44768431550332N_16.pdf; ComponentLink4Description: URL Link1; ComponentLink4URL: Product URL:http://www.analog.com/en/special-linear-functions/comparators/ad8564/products/product.html
footprint ADI-N-16 (DIP, 16-Leads, Body 20.07x6.6mm, Pitch 2.54mm)
part A pins: 1 -INA (in), 2 +INA (in), 4 OUT A (out)
part B pins: 5 OUT B (out), 7 +INB (in), 8 -INB (in)
part C pins: 9 -INC (in), 10 +INC (in), 12 OUT C (out)
part D pins: 13 OUT D (out), 15 +IND (in), 16 -IND (in)
part E pins: 3 GND (power), 6 V-ANA (power), 11 V+DIG (power), 14 V+ANA (power)

## AD8564ANZ
designator U?
Quad Single Supply Comparator, 5 V, 7 ns Delay, Industrial, 16-pin DIP (N-16), Tube; Manufacturer: Analog Devices; PartNumber: AD8564ANZ; Input Range (V): -4.9 to 3.5; Total Power (mW): 150mW; Voltage Supply (V): +/- 5; DatasheetVersion: Rev. B; PackageVersion: 070706-A, 07/2006; PackageReference: N-16; PackageDescription: 16-Pin Plastic Dual In-Line Package, Row spacing 7.62 mm, Pitch 2.54 mm; Supplier 1: Digi-Key; Supplier Part Number 1: AD8564ANZ-ND; Supplier 2: Farnell; Supplier Part Number 2: 9603875; Supplier 3: Mouser; Supplier Part Number 3: N/A; Packing: Tube; Mounting Technology: Through Hole; Code_JEDEC: MS-001; ComponentLink1Description: Manufacturer URL; ComponentLink1URL: http://www.analog.com/en/index.html; ComponentLink2Description: Datasheet; ComponentLink2URL: http://www.analog.com/static/imported-files/data_sheets/AD8564.pdf; ComponentLink3Description: Package Specification; ComponentLink3URL: http://www.analog.com/static/imported-files/packages/44768431550332N_16.pdf; ComponentLink4Description: URL Link1; ComponentLink4URL: Product URL:http://www.analog.com/en/special-linear-functions/comparators/ad8564/products/product.html
footprint ADI-N-16 (DIP, 16-Leads, Body 20.07x6.6mm, Pitch 2.54mm)
part A pins: 1 -INA (in), 2 +INA (in), 4 OUT A (out)
part B pins: 5 OUT B (out), 7 +INB (in), 8 -INB (in)
part C pins: 9 -INC (in), 10 +INC (in), 12 OUT C (out)
part D pins: 13 OUT D (out), 15 +IND (in), 16 -IND (in)
part E pins: 3 GND (power), 6 V-ANA (power), 11 V+DIG (power), 14 V+ANA (power)

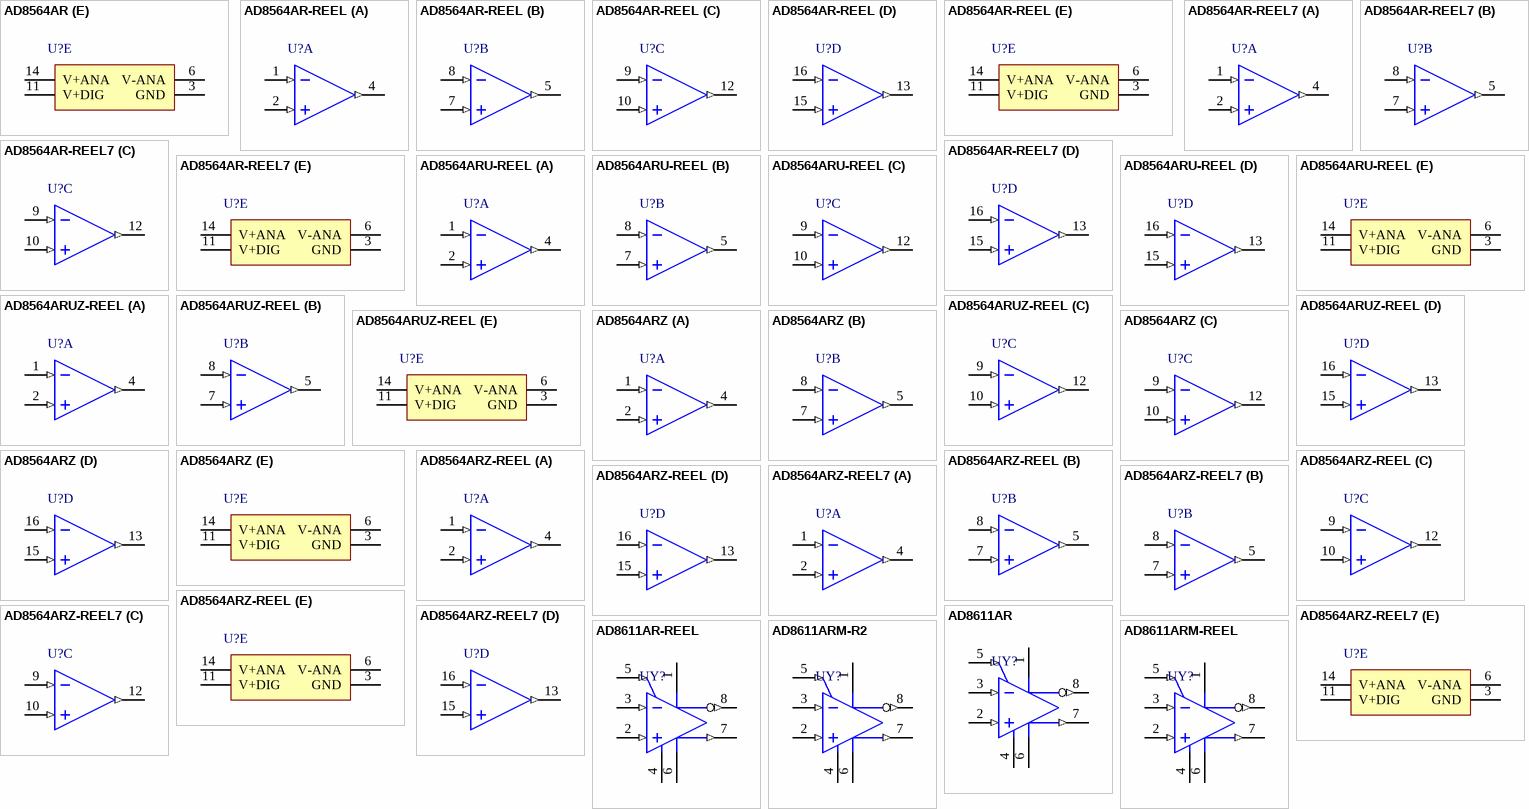
[diagram p1: symbols AD8564AR to AD8611ARM-REEL]

## AD8564AR
designator U?
Quad Single Supply Comparator, 5 V, 7 ns Delay, Industrial, 16-pin SOIC (R-16), Tube; Manufacturer: Analog Devices; PartNumber: AD8564AR; Input Range (V): -4.9 to 3.5; Total Power (mW): 150mW; Voltage Supply (V): +/- 5; DatasheetVersion: Rev. B; PackageVersion: 060606-A, 06/2006; PackageReference: R-16; PackageDescription: 16-Pin Standard Small Outline Package, Body 9.9 x 3.9 mm, Pitch 1.27 mm; Supplier 1: Digi-Key; Supplier Part Number 1: AD8564AR-ND; Supplier 2: Mouser; Supplier Part Number 2: 584-AD8564AR; Packing: Tube; Mounting Technology: Surface Mount; Code_JEDEC: MS-012-AC; ComponentLink1Description: Manufacturer URL; ComponentLink1URL: http://www.analog.com/en/index.html; ComponentLink2Description: Datasheet; ComponentLink2URL: http://www.analog.com/static/imported-files/data_sheets/AD8564.pdf; ComponentLink3Description: Package Specification; ComponentLink3URL: http://www.analog.com/static/imported-files/packages/PKG_PDF/SOIC_Narrow%20(R)/R_16.pdf; ComponentLink4Description: URL Link1; ComponentLink4URL: Product URL:http://www.analog.com/en/special-linear-functions/comparators/ad8564/products/product.html
footprint ADI-R-16_N (SOIC, 16-Leads, Body 9.9x3.9mm, Pitch 1.27mm, IPC Medium Density)
footprint ADI-R-16_L (SOIC, 16-Leads, Body 9.9x3.9mm, Pitch 1.27mm, IPC High Density)
footprint ADI-R-16_M (SOIC, 16-Leads, Body 9.9x3.9mm, Pitch 1.27mm, IPC Low Density)
part A pins: 1 -INA (in), 2 +INA (in), 4 OUT A (out)
part B pins: 5 OUT B (out), 7 +INB (in), 8 -INB (in)
part C pins: 9 -INC (in), 10 +INC (in), 12 OUT C (out)
part D pins: 13 OUT D (out), 15 +IND (in), 16 -IND (in)
part E pins: 3 GND (power), 6 V-ANA (power), 11 V+DIG (power), 14 V+ANA (power)

## AD8564AR-REEL
designator U?
Quad Single Supply Comparator, 5 V, 7 ns Delay, Industrial, 16-pin SOIC (R-16), Reel; Manufacturer: Analog Devices; PartNumber: AD8564AR-REEL; Input Range (V): -4.9 to 3.5; Total Power (mW): 150mW; Voltage Supply (V): +/- 5; DatasheetVersion: Rev. B; PackageVersion: 060606-A, 06/2006; PackageReference: R-16; PackageDescription: 16-Pin Standard Small Outline Package, Body 9.9 x 3.9 mm, Pitch 1.27 mm; Supplier 1: Digi-Key; Supplier Part Number 1: AD8564AR-REEL-ND; Supplier 2: Mouser; Supplier Part Number 2: 584-AD8564AR-R; Packing: Reel; Mounting Technology: Surface Mount; Code_JEDEC: MS-012-AC; ComponentLink1Description: Manufacturer URL; ComponentLink1URL: http://www.analog.com/en/index.html; ComponentLink2Description: Datasheet; ComponentLink2URL: http://www.analog.com/static/imported-files/data_sheets/AD8564.pdf; ComponentLink3Description: Package Specification; ComponentLink3URL: http://www.analog.com/static/imported-files/packages/PKG_PDF/SOIC_Narrow%20(R)/R_16.pdf; ComponentLink4Description: URL Link1; ComponentLink4URL: Product URL:http://www.analog.com/en/special-linear-functions/comparators/ad8564/products/product.html
footprint ADI-R-16_N (SOIC, 16-Leads, Body 9.9x3.9mm, Pitch 1.27mm, IPC Medium Density)
footprint ADI-R-16_L (SOIC, 16-Leads, Body 9.9x3.9mm, Pitch 1.27mm, IPC High Density)
footprint ADI-R-16_M (SOIC, 16-Leads, Body 9.9x3.9mm, Pitch 1.27mm, IPC Low Density)
part A pins: 1 -INA (in), 2 +INA (in), 4 OUT A (out)
part B pins: 5 OUT B (out), 7 +INB (in), 8 -INB (in)
part C pins: 9 -INC (in), 10 +INC (in), 12 OUT C (out)
part D pins: 13 OUT D (out), 15 +IND (in), 16 -IND (in)
part E pins: 3 GND (power), 6 V-ANA (power), 11 V+DIG (power), 14 V+ANA (power)